# Altium schematic symbol library CAP - 0805GC102JAT2A.SchLib: 1 symbol
Pins are listed as number, name and electrical type; pins without a type are passive.

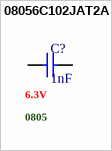
[diagram p0: symbol 08056C102JAT2A]

## 08056C102JAT2A
designator C?, comment 1nF  .Case/Package: 0805  .Voltage Rating (DC): 6.3V
Multilayer Ceramic Capacitors MLCC - SMD/SMT 6.3V 1000pF X7R 0805 5%; Manufacturer: KYOCERA AVX; Manufacturer Part Number: 08056C102JAT2A; Supplier: Mouser; Supplier Part Number: 581-08056C102JAT2A; RoHS: Compliant; Category: Ceramic Capacitors; Stock: 11081; Pricing: 1=0,26, 10=0,167, 50=0,167, 100=0,099, 1000=0,072, 10000=0,057 (USD); Value: 1nF; Case/Package: 0805; Case Code (Imperial): 0805; Case Code (Metric): 2012; Depth: 1.25mm; Dielectric: X7R; Dissipation Factor: 5%; Length: 2.01mm; Max Operating Temperature: 125°C; Min Operating Temperature: -55°C; Mounting Technology: Surface Mount; Termination: SMD/SMT; Thickness: 939.8µm; Tolerance: 5%; Voltage Rating: 6.3V; Voltage Rating (DC): 6.3V; Width: 1.2446mm; ComponentLink1URL: https://datasheet.octopart.com/08056C102JAT2A-KYOCERA-AVX-datasheet-13516023.pdf; ComponentLink1Description: https://datasheet.octopart.com/08056C102JAT2A-KYOCERA-AVX-datasheet-13516023.pdf; ComponentLink2URL: http://sigma.octopart.com:80/reach_statement/AVX-company-19.pdf?src-supplier=Compliance+Statements; ComponentLink2Description: http://sigma.octopart.com:80/reach_statement/AVX-company-19.pdf?src-supplier=Compliance+Statements; ComponentLink3URL: http://sigma.octopart.com:80/conflict_mineral_statement/AVX-company-34.pdf?src-supplier=Compliance+Statements; ComponentLink3Description: http://sigma.octopart.com:80/conflict_mineral_statement/AVX-company-34.pdf?src-supplier=Compliance+Statements; Supplier 1: Mouser; Supplier Part Number 1: 581-08056C102JAT2A
footprint CAPC2012X05N (Chip Capacitor, 2-Leads, Body 2,01x1,25mm, IPC Medium Density)
pins: 1, 2